# EAGLE library part STM32F1-BLACK_PILL (library angrypig7-Boards)
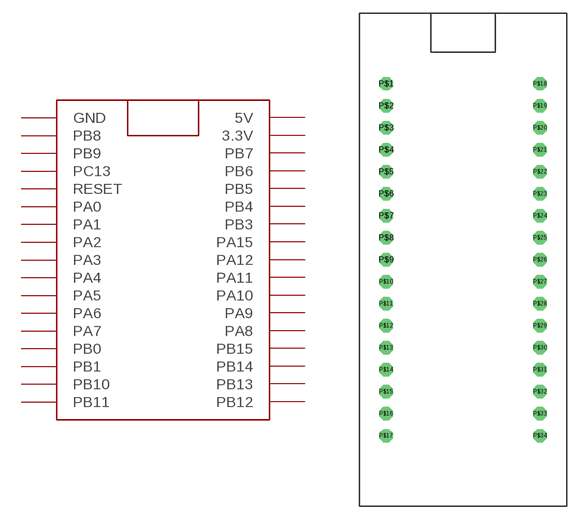
[diagram p9: symbol with the pads of STM32F1-BLACK_PILL; footprint STM32F1-BLACK_PILL]

Designator prefix B

## STM32F1-BLACK_PILL  [STM32F1-BLACK_PILL]
P$1  GND  pwr
P$2  PB8
P$3  PB9
P$4  PC13
P$5  RESET
P$6  PA0
P$7  PA1
P$8  PA2
P$9  PA3
P$10  PA4
P$11  PA5
P$12  PA6
P$13  PA7
P$14  PB0
P$15  PB1
P$16  PB10
P$17  PB11
P$18  5V
P$19  3.3V
P$20  PB7
P$21  PB6
P$22  PB5
P$23  PB4
P$24  PB3
P$25  PA15
P$26  PA12
P$27  PA11
P$28  PA10
P$29  PA9
P$30  PA8
P$31  PB15
P$32  PB14
P$33  PB13
P$34  PB12

## Footprint STM32F1-BLACK_PILL (pad centres in mm)
drill 1.016 octagon: P$1 -8.89,20.32; P$2 -8.89,17.78; P$3 -8.89,15.24; P$4 -8.89,12.7; P$5 -8.89,10.16; P$6 -8.89,7.62; P$7 -8.89,5.08; P$8 -8.89,2.54; P$9 -8.89,0; P$10 -8.89,-2.54; P$11 -8.89,-5.08; P$12 -8.89,-7.62; P$13 -8.89,-10.16; P$14 -8.89,-12.7; P$15 -8.89,-15.24; P$16 -8.89,-17.78; P$17 -8.89,-20.32; P$18 8.89,20.32; P$19 8.89,17.78; P$20 8.89,15.24; P$21 8.89,12.7; P$22 8.89,10.16; P$23 8.89,7.62; P$24 8.89,5.08; P$25 8.89,2.54; P$26 8.89,0; P$27 8.89,-2.54; P$28 8.89,-5.08; P$29 8.89,-7.62; P$30 8.89,-10.16; P$31 8.89,-12.7; P$32 8.89,-15.24; P$33 8.89,-17.78; P$34 8.89,-20.32